# Altium integrated library POWER_LED.IntLib: 1 symbol
Pins are listed as number, name and electrical type; pins without a type are passive.

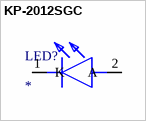
[diagram p0: symbol KP-2012SGC]

## KP-2012SGC
designator LED?
LED; Manufacturer_Name: Kingbright; Manufacturer_Part_Number: KP-2012SGC; Description: Green 0805 clear chip-LED KP-2012SGC Kingbright KP-2012SGC Green LED; Datasheet Link: http://my.rs-online.com/webdocs/032f/0900766b8032fa8b.pdf; Height: 1.1mm; Mouser Part Number: N/A; Mouser Price/Stock: https://www.mouser.com/Search/Refine.aspx?Keyword=N%2FA; RS Part Number: 4663807; RS Price/Stock: https://uk.rs-online.com/web/p/products/4663807
footprint LEDC2012X110N
pins: 1 K, 2 A